# EAGLE library part HY911130A (library con-hanrun)
100/1000Base-T Magnetics Jack
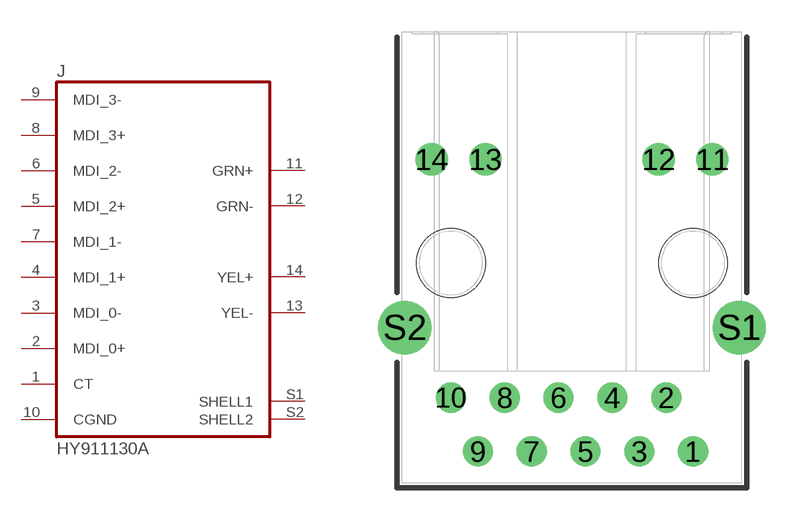
[diagram p0: symbol with the pads of HY911130A; footprint HY911130A]

Designator prefix J

## HY911130A  [HY911130A]
1  CT  pas
2  MDI_0+  pas
3  MDI_0-  pas
4  MDI_1+  pas
5  MDI_2+  pas
6  MDI_2-  pas
7  MDI_1-  pas
8  MDI_3+  pas
9  MDI_3-  pas
10  CGND  pas
11  GRN+  pas
12  GRN-  pas
13  YEL-  pas
14  YEL+  pas
S1  SHELL1  pas
S2  SHELL2  pas

## Footprint HY911130A (pad centres in mm)
100/1000 ETHERNET JACK
drill 0.914: 1 5.715,-19.812; 2 4.445,-17.272; 3 3.175,-19.812; 4 1.905,-17.272; 5 0.635,-19.812; 6 -0.635,-17.272; 7 -1.905,-19.812; 8 -3.175,-17.272; 9 -4.445,-19.812; 10 -5.715,-17.272
drill 1.016: 11 6.625,-6.02; 12 4.085,-6.02; 13 -4.085,-6.02; 14 -6.625,-6.02
drill 1.676: S1 7.895,-13.97; S2 -7.895,-13.97
hole 3.25 at -5.715,-10.92
hole 3.25 at 5.715,-10.92